# Altium schematic symbol library ICM-42688-P.SchLib: 1 symbol
Pins are listed as number, name and electrical type; pins without a type are passive.

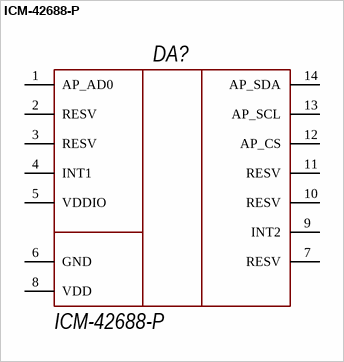
[diagram p0: symbol ICM-42688-P]

## ICM-42688-P
designator DA?
pins: 1 AP_AD0, 2 RESV, 3 RESV, 4 INT1, 5 VDDIO, 6 GND, 7 RESV, 8 VDD, 9 INT2, 10 RESV, 11 RESV, 12 AP_CS, 13 AP_SCL, 14 AP_SDA